# Altium footprint library SMD-RCL.PcbLib: 14 footprints
Each footprint in its own frame and in the unit in brackets; x right, y up, seen from the top. Pads: shape width x height; smd on the part's side, far side on the other; paste and mask are expansions set on the pad; w line width, h text height; cw(c..) or ccw(c..) is an arc to the next point about the centre after c.
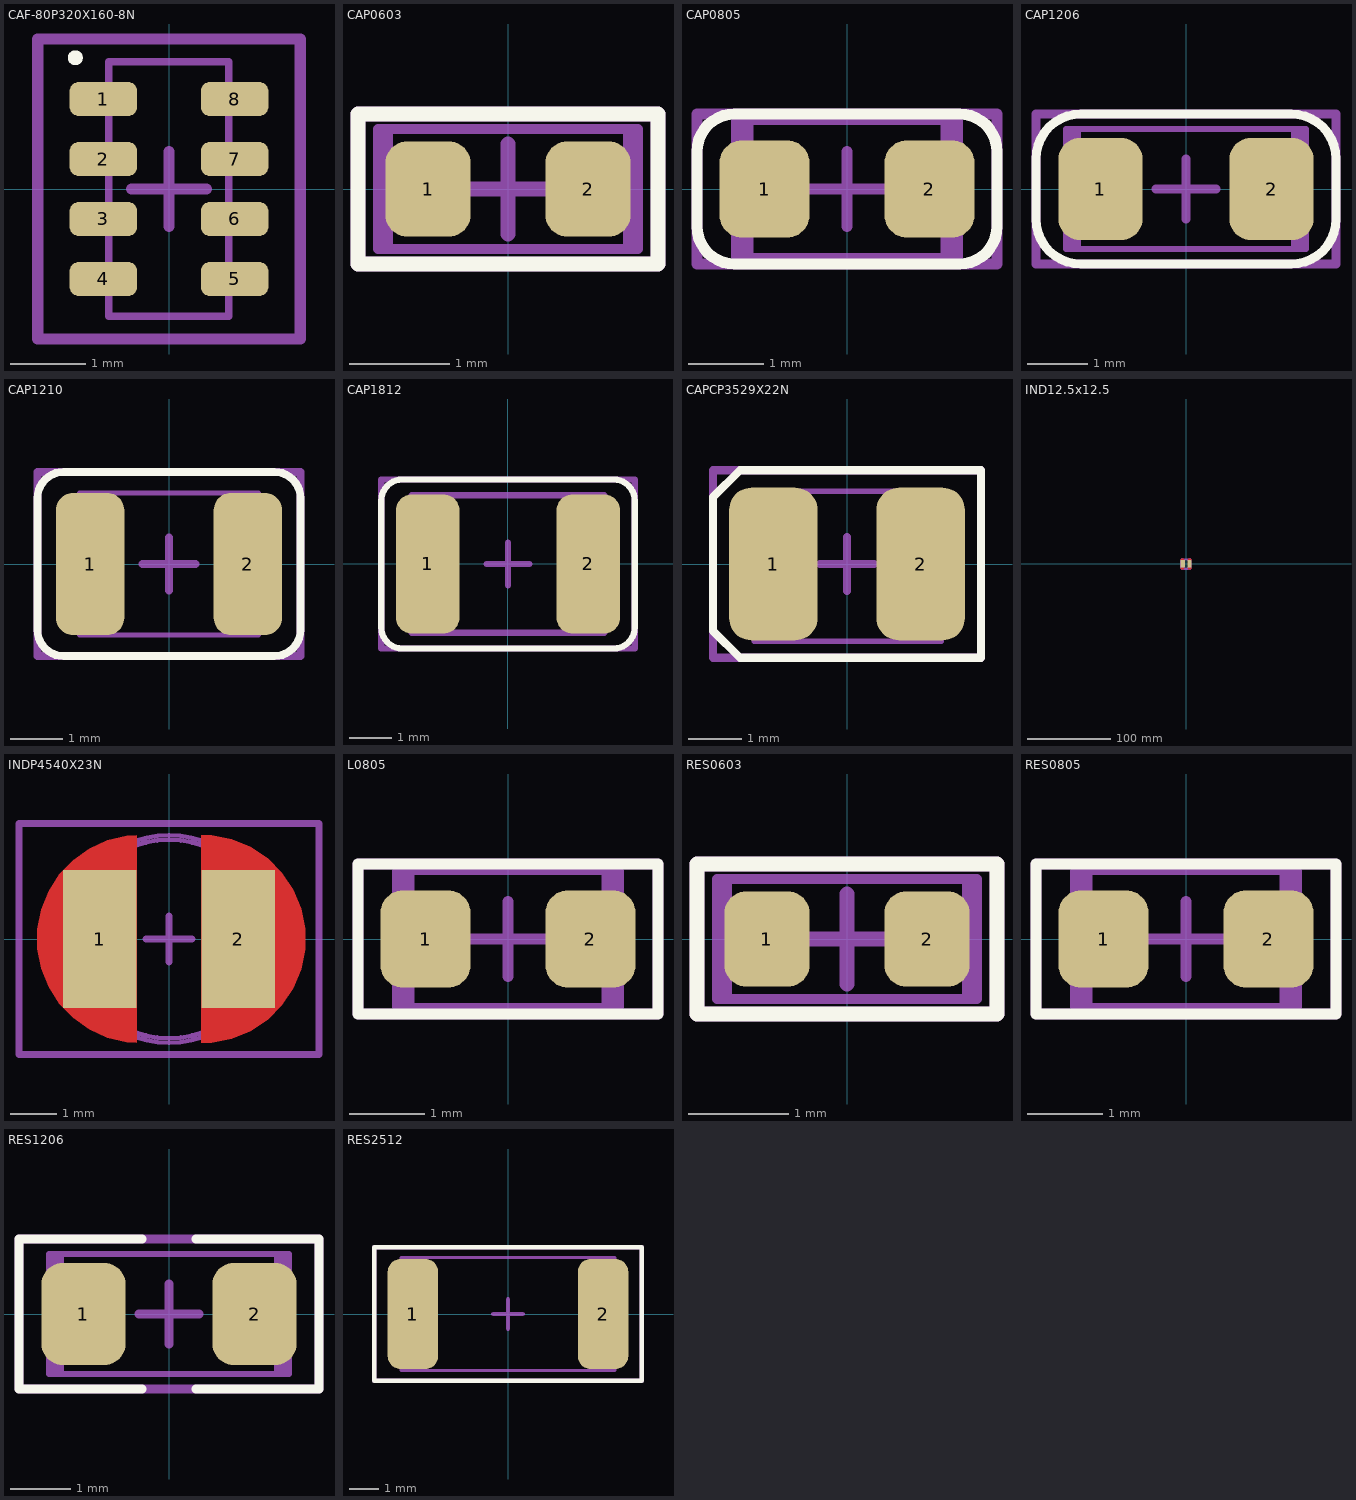
[diagram p0: the footprints below, top view; thin cyan lines are the x and y axes]

## CAF-80P320X160-8N [mm] "Chip Array, Flat, 8-Leads, Pitch 0,80mm,  Body 3,20x1,60mm,  IPC Medium Density"
height 1
pads (8):
  rrect50% 0.9x0.45 smd: 1(-0.875,1.2) 2(-0.875,0.4) 3(-0.875,-0.4) 4(-0.875,-1.2) 5(0.875,-1.2) 6(0.875,-0.4) 7(0.875,0.4) 8(0.875,1.2)
Top Overlay:
  circle w0.1: c-1.25,1.75 r0.05
Top Assembly:
  lines w0.1: -0.8,-1.7 0.8,-1.7 0.8,1.7 -0.8,1.7 -0.8,-1.7
Top Component Outline:
  lines w0.15: -0.5,0 0.5,0 ; 0,-0.5 0,0.5 ; -1.75,-2 1.75,-2 1.75,2 -1.75,2 -1.75,-2
3D body "SMD R1206-4Way-Var2-1.STEP": height 0.5, standoff 0, extent -0.8,-1.6 0.8,1.6

## CAP0603 [mm] "Chip Capacitor, 2-Leads, Body 1,60x0,83mm, IPC Medium Density"
height 0.6
pads (2):
  rrect50% 0.85x0.95 smd: 1(-0.8,0) 2(0.8,0)
Top Overlay:
  lines w0.15: -1.5,-0.75 0,-0.75 1.5,-0.75 1.5,0.75 0,0.75 -1.5,0.75 -1.5,-0.75
Top Assembly:
  lines w0.1: -1.2,-0.6 -1.2,0.6 ; 1.2,-0.6 1.2,0.6 ; -1.3,-0.6 -1.3,0.6 1.3,0.6 1.3,-0.6 -1.3,-0.6
Top Component Outline:
  lines w0.15: -0.45,0 0.45,0 ; 0,-0.45 0,0.45 ; -1.5,-0.75 -1.5,0.75 1.5,0.75 1.5,-0.75 -1.5,-0.75
3D body "CAPC1608X06N.step": height 0.6, standoff 0, extent -0.85,-0.45 0.85,0.45

## CAP0805 [mm] "Chip Capasitor, 2-Leads, Body 2,00x1,25mm, IPC Medium Density"
height 0.7
pads (2):
  rrect50% 1.2x1.3 smd: 1(-1.1,0) 2(1.1,0)
Top Overlay:
  lines w0.15: -2,-0.5 ccw(c-1.5,-0.5) -1.5,-1 1.5,-1 ccw(c1.5,-0.5) 2,-0.5 2,0.5 ccw(c1.5,0.5) 1.5,1 -1.5,1 ccw(c-1.5,0.5) -2,0.5 -2,-0.5
Top Assembly:
  rectangle: 1.3,-0.9 1.5,0.9
  rectangle: -1.5,-0.9 -1.3,0.9
  lines w0.1: -1.3,-0.9 -1.3,0.9 ; 1.3,-0.9 1.3,0.9 ; -1.5,-0.9 1.5,-0.9 1.5,0.9 -1.5,0.9 -1.5,-0.9
Top Component Outline:
  lines w0.15: -0.5,0 0.5,0 ; 0,-0.5 0,0.5 ; -2,-1 2,-1 2,1 -2,1 -2,-1
3D body "C-0805.STEP": height 0.78, standoff 0, extent -1,-0.625 1,0.625

## CAP1206 [mm] "Chip Capasitor, 2-Leads, Body 3,20x1,60mm, IPC Medium Density"
height 0.7
pads (2):
  rrect50% 1.4x1.7 smd: 1(-1.425,0) 2(1.425,0)
Top Overlay:
  lines w0.15: -2.5,-0.5 ccw(c-1.75,-0.5) -1.75,-1.25 1.75,-1.25 ccw(c1.75,-0.5) 2.5,-0.5 2.5,0.5 ccw(c1.75,0.5) 1.75,1.25 -1.75,1.25 ccw(c-1.75,0.5) -2.5,0.5 -2.5,-0.5
Top Assembly:
  rectangle: -1.95,-1 -1.75,1
  rectangle: 1.75,-1.05 1.95,1
  lines w0.1: -2,-1 -2,1 2,1 2,-1 -2,-1
Top Component Outline:
  lines w0.15: -0.5,0 0.5,0 ; 0,-0.5 0,0.5 ; -2.5,-1.25 -2.5,1.25 2.5,1.25 2.5,-1.25 -2.5,-1.25
3D body "R-1206.STEP": height 1, standoff 0, extent -1.625,-0.8 1.575,0.8

## CAP1210 [mm] "Chip Capacitor, Body 3.2x2.5mm, IPC Medium Density"
height 1.35
pads (2):
  rrect50% 1.3x2.7 smd: 1(-1.5,0) 2(1.5,0)
Top Overlay:
  lines w0.15: -2.5,-1.25 ccw(c-2,-1.25) -2,-1.75 0,-1.75 2,-1.75 ccw(c2,-1.25) 2.5,-1.25 2.5,1.25 ccw(c2,1.25) 2,1.75 0,1.75 -2,1.75 ccw(c-2,1.25) -2.5,1.25 -2.5,-1.25
Top Assembly:
  lines w0.1: -1.7,-1.35 -1.7,1.35 1.7,1.35 1.7,-1.35 -1.7,-1.35
Top Component Outline:
  lines w0.15: -0.5,0 0.5,0 ; 0,-0.5 0,0.5 ; -2.5,-1.75 -2.5,1.75 2.5,1.75 2.5,-1.75 -2.5,-1.75
3D body "CAPC3225X20N.step": height 2, standoff 0, extent -1.65,-1.275 1.65,1.275

## CAP1812 [mm] "Chip Capacitor, 2-Leads, Body 4,50x3,20mm, IPC Medium Density"
height 2
pads (2):
  rrect50% 1.5x3.3 smd: 1(-1.9,0) 2(1.9,0)
Top Overlay:
  lines w0.15: -3,-1.5 ccw(c-2.5,-1.5) -2.5,-2 -1.25,-2 1.25,-2 2.5,-2 ccw(c2.5,-1.5) 3,-1.5 3,1.5 ccw(c2.5,1.5) 2.5,2 1.25,2 -1.25,2 -2.5,2 ccw(c-2.5,1.5) -3,1.5 -3,-1.5
Top Assembly:
  lines w0.15: -2.275,-1.625 -2.275,1.625 2.275,1.625 2.275,-1.625 -2.275,-1.625
Top Component Outline:
  lines w0.15: -0.5,0 0.5,0 ; 0,-0.5 0,0.5 ; -3,-2 -3,2 3,2 3,-2 -3,-2
3D body "CAPC4532X20N.step": height 2, standoff 0, extent -2.275,-1.625 2.275,1.625

## CAPCP3529X22N [mm] "Chip Capacitor, 2-Leads, Body 3,50x2,88mm, IPC Medium Density"
height 2.2
pads (2):
  rrect50% 1.65x2.85 smd: 1(-1.375,0) 2(1.375,0)
Top Overlay:
  lines w0.15: -2.5,-1.25 -2,-1.75 2.5,-1.75 2.5,1.75 -2,1.75 -2.5,1.25 -2.5,-1.25
Top Assembly:
  rectangle: -1.5,-1.4 -1.1,1.4
  lines w0.1: -1.788,-0.694 -1.788,0.606 ; -1.752,-1.144 -1.817,-1.144 -1.817,-0.694 -1.752,-0.694 ; -1.752,-1.144 -1.735,-1.144 -1.735,-0.694 -1.752,-0.694 ; -1.752,-1.144 -1.752,-0.694 ; -1.752,0.606 -1.735,0.606 -1.735,1.056 -1.752,1.056 ; -1.752,0.606 -1.817,0.606 -1.817,1.056 -1.752,1.056 ; -1.752,0.606 -1.752,1.056 ; -1.685,-1.444 -1.685,1.356 ; -1.685,-1.444 -1.435,-1.444 1.715,-1.444 ; -1.685,-1.444 -1.735,-1.444 -1.735,1.356 -1.685,1.356 ; -1.685,1.356 -1.435,1.356 1.715,1.356 ; 1.715,-1.444 1.715,1.356 ; 1.715,-1.444 1.765,-1.444 1.765,1.356 1.715,1.356 ; 1.781,-1.144 1.846,-1.144 1.846,-0.419 ; 1.781,-1.144 1.765,-1.144 1.765,-0.419 1.781,-0.419 ; 1.781,-1.144 1.781,-0.419 ; 1.781,-0.419 1.846,-0.419 ; 1.781,0.331 1.765,0.331 1.765,1.056 1.781,1.056 ; 1.781,0.331 1.846,0.331 ; 1.781,0.331 1.781,1.056 ; 1.781,1.056 1.846,1.056 1.846,0.331 ; 1.846,-0.419 1.846,0.331
Top Component Outline:
  lines w0.15: -0.5,0 0.5,0 ; 0,-0.5 0,0.5 ; -2.5,-1.75 2.5,-1.75 2.5,1.75 -2.5,1.75 -2.5,-1.75
3D body "User Library-QT02752.SLDPRT": height 1.95, standoff 0.04, extent -1.831,-1.4 1.831,1.4

## IND12.5x12.5 [mm]
pads (2):
  rect 5x9 smd: 1(-4,0) 2(4,0)
Top Layer:
  region: 6.5,4.6 6.5,4.758 6.439,5.067 6.318,5.358 6.143,5.62 5.92,5.843 5.658,6.018 5.367,6.139 5.058,6.2 4.9,6.2 2.5,6.2 2.5,4.5 6.5,4.5
  region: 6.5,-4.6 6.5,-4.758 6.439,-5.067 6.318,-5.358 6.143,-5.62 5.92,-5.843 5.658,-6.018 5.367,-6.139 5.058,-6.2 4.9,-6.2 2.5,-6.2 2.5,-4.5 6.5,-4.5
  region: -6.5,-4.6 -6.5,-4.758 -6.439,-5.067 -6.318,-5.358 -6.143,-5.62 -5.92,-5.843 -5.658,-6.018 -5.367,-6.139 -5.058,-6.2 -4.9,-6.2 -2.5,-6.2 -2.5,-4.5 -6.5,-4.5
  region: -6.5,4.6 -6.5,4.758 -6.439,5.067 -6.318,5.358 -6.143,5.62 -5.92,5.843 -5.658,6.018 -5.367,6.139 -5.058,6.2 -4.9,6.2 -2.5,6.2 -2.5,4.5 -6.5,4.5
Top Solder:
  region: 6.6,-4.6 6.602,-4.762 6.545,-5.081 6.428,-5.383 6.256,-5.656 6.034,-5.892 5.771,-6.081 5.476,-6.216 5.162,-6.293 5,-6.3 2.4,-6.3 2.4,-4.5 6.6,-4.5
  region: 6.6,4.6 6.602,4.762 6.545,5.081 6.428,5.383 6.256,5.656 6.034,5.892 5.771,6.081 5.476,6.216 5.162,6.293 5,6.3 2.4,6.3 2.4,4.5 6.6,4.5
  region: -6.6,4.6 -6.602,4.762 -6.545,5.081 -6.428,5.382 -6.256,5.656 -6.034,5.892 -5.771,6.081 -5.476,6.216 -5.162,6.293 -5,6.3 -2.4,6.3 -2.4,4.5 -6.6,4.5
  region: -6.6,-4.6 -6.602,-4.762 -6.545,-5.081 -6.428,-5.382 -6.256,-5.656 -6.034,-5.892 -5.771,-6.081 -5.476,-6.216 -5.162,-6.293 -5,-6.3 -2.4,-6.3 -2.4,-4.5 -6.6,-4.5
Top Assembly:
  circle w0.05: c-0.064,-0.094 r5
  circle w0.05: c-2.892,2.735 r0.25
  circle w0.05: c-0.064,-0.094 r5.25
  lines w0.05: -4.644,2.951 -4.423,2.832 ; -4.423,-3.019 -4.644,-3.139 ; -4.113,-3.436 -4.645,-3.968 ccw(c-0.064,-0.094) -3.938,-4.675 -3.406,-4.143 ; -4.113,3.248 -4.645,3.781 cw(c-0.064,-0.094) -3.938,4.488 -3.406,3.955 ; -3.109,-4.674 -2.989,-4.453 ; -3.109,4.487 -2.989,4.266 ; -2.229,-5.15 -2.11,-4.929 ; -2.229,4.962 -2.11,4.741 ; 1.982,-4.929 2.101,-5.15 ; 1.982,4.741 2.101,4.962 ; 2.862,-4.453 2.981,-4.674 ; 2.862,4.266 2.981,4.487 ; 3.278,-4.143 3.811,-4.675 ccw(c-0.064,-0.094) 4.518,-3.968 3.985,-3.436 ; 3.278,3.955 3.811,4.488 cw(c-0.064,-0.094) 4.518,3.781 3.985,3.248 ; 4.296,-3.019 4.516,-3.139 ; 4.296,2.832 4.516,2.951 ; -6.314,-4.344 ccw(c-4.314,-4.344) -4.314,-6.344 ; -6.314,-4.344 -6.314,4.156 ; -6.314,-4.344 -6.214,-4.344 ; -6.314,4.156 cw(c-4.314,4.156) -4.314,6.156 ; -6.314,4.156 -6.214,4.156 ; -6.214,-4.344 ccw(c-4.314,-4.344) -4.314,-6.244 ; -6.214,-4.344 -6.214,4.156 ; -6.214,4.156 cw(c-4.314,4.156) -4.314,6.056 ; -4.873,-3.06 cw(c11.018,-87.555) -4.714,-3.03 ; -4.873,-3.06 cw(c-7.135,-5.29) -4.763,-3.177 ; -4.873,-3.06 ccw(c-4.314,-4.343) -3.03,-4.902 ; -4.873,-3.06 cw(c-0.064,-0.094) -4.873,2.872 ; -4.873,2.872 cw(c-4.314,4.156) -3.03,4.715 ; -4.873,2.872 ccw(c-7.12,5.089) -4.763,2.99 ; -4.873,2.872 ccw(c11.018,87.367) -4.714,2.843 ; -4.763,-3.177 ccw(c-4.799,-3.084) -4.714,-3.03 ; -4.763,-3.177 ccw(c-4.314,-4.343) -3.147,-4.793 ; -4.763,-3.177 -4.644,-3.138 ; -4.763,2.99 cw(c-4.314,4.156) -3.147,4.605 ; -4.763,2.99 cw(c-4.799,2.896) -4.714,2.843 ; -4.763,2.99 -4.644,2.951 -4.714,2.843 ; -4.714,-3.03 cw(c-0.064,-0.094) -4.714,2.843 ; -4.714,-3.03 -4.644,-3.138 ; -4.314,-6.344 4.186,-6.344 ; -4.314,-6.344 -4.314,-6.244 ; -4.314,-6.244 4.186,-6.244 ; -4.314,6.056 -4.314,6.156 ; -4.314,6.056 4.186,6.056 ; -4.314,6.156 4.186,6.156 ; -3.147,-4.793 cw(c-3.054,-4.829) -3,-4.744 ; -3.147,-4.793 cw(c-5.26,-7.165) -3.03,-4.902 ; -3.147,-4.793 -3.108,-4.674 -3,-4.744 ; -3.147,4.605 ccw(c-3.054,4.641) -3,4.557 ; -3.147,4.605 ccw(c-5.246,6.963) -3.03,4.715 ; -3.147,4.605 -3.108,4.487 -3,4.557 ; -3.03,-4.902 ccw(c-91.347,11.703) -3,-4.744 ; -3.03,-4.902 ccw(c-0.064,-0.094) 2.902,-4.902 ; -3.03,4.715 cw(c-87.525,-11.175) -3,4.557 ; -3.03,4.715 cw(c-0.064,-0.094) 2.902,4.715 ; -3,-4.744 ccw(c-0.064,-0.094) 2.873,-4.744 ; -3,4.557 cw(c-0.064,-0.094) 2.873,4.557 ; 2.873,-4.744 cw(c2.926,-4.829) 3.019,-4.793 ; 2.873,-4.744 ccw(c91.22,11.703) 2.902,-4.902 ; 2.873,-4.744 2.98,-4.674 3.019,-4.793 ; 2.873,4.557 ccw(c2.926,4.641) 3.019,4.605 ; 2.873,4.557 cw(c87.397,-11.175) 2.902,4.715 ; 2.873,4.557 2.98,4.487 ; 2.902,-4.902 ccw(c4.186,-4.343) 4.745,-3.06 ; 2.902,-4.902 cw(c5.133,-7.165) 3.019,-4.793 ; 2.902,4.715 cw(c4.186,4.156) 4.745,2.872 ; 2.902,4.715 ccw(c5.119,6.963) 3.019,4.605 ; 2.98,4.487 3.019,4.605 ; 3.019,-4.793 ccw(c4.186,-4.343) 4.635,-3.177 ; 3.019,4.605 cw(c4.186,4.156) 4.635,2.99 ; 4.186,-6.344 ccw(c4.186,-4.344) 6.186,-4.344 ; 4.186,-6.344 4.186,-6.244 ; 4.186,-6.244 ccw(c4.186,-4.344) 6.086,-4.344 ; 4.186,6.056 cw(c4.186,4.156) 6.086,4.156 ; 4.186,6.056 4.186,6.156 ; 4.186,6.156 cw(c4.186,4.156) 6.186,4.156 ; 4.587,-3.03 ccw(c4.671,-3.084) 4.635,-3.177 ; 4.587,-3.03 ccw(c-0.064,-0.094) 4.587,2.843 ; 4.587,-3.03 cw(c-11.86,-91.377) 4.745,-3.06 ; 4.587,-3.03 4.517,-3.138 4.635,-3.177 ; 4.587,2.843 cw(c4.671,2.896) 4.635,2.99 ; 4.587,2.843 ccw(c-11.86,91.19) 4.745,2.872 ; 4.587,2.843 4.517,2.951 4.635,2.99 ; 4.635,-3.177 cw(c7.007,-5.29) 4.745,-3.06 ; 4.635,2.99 ccw(c6.993,5.089) 4.745,2.872 ; 4.745,-3.06 ccw(c-0.064,-0.094) 4.745,2.872 ; 6.086,-4.344 6.086,4.156 ; 6.086,-4.344 6.186,-4.344 ; 6.086,4.156 6.186,4.156 ; 6.186,-4.344 6.186,4.156
3D body "User Library-DRQ127_12_5x12_5.step": height 8, standoff 0, extent -6.3,-6.325 6.2,6.175

## INDP4540X23N [mm] "Precision Wire Wound Inductor, 2-Leads, Body 4,50x4,00mm, IPC Medium Density"
height 2.29
pads (2):
  rect 1.6x3 smd: 1(-1.5,0) 2(1.5,0)
Top Layer:
  region: 0.7,0 2.95,0 2.95,0.222 2.864,0.656 2.694,1.066 2.448,1.434 2.134,1.748 1.766,1.994 1.356,2.164 0.922,2.25 0.7,2.25
  region: 0.7,0 2.95,0 2.95,-0.222 2.864,-0.656 2.694,-1.066 2.448,-1.434 2.134,-1.748 1.766,-1.994 1.356,-2.164 0.922,-2.25 0.7,-2.25
  region: -0.7,0 -2.85,0 -2.85,-0.215 -2.768,-0.638 -2.608,-1.038 -2.375,-1.4 -2.077,-1.711 -1.726,-1.96 -1.334,-2.138 -0.915,-2.238 -0.7,-2.248
  region: -0.7,0 -2.85,0 -2.85,0.215 -2.768,0.638 -2.608,1.038 -2.375,1.4 -2.077,1.711 -1.726,1.96 -1.334,2.138 -0.915,2.238 -0.7,2.248
Top Assembly:
  lines w0.1: -1.848,-0.329 -1.864,-0.22 -1.874,-0.11 -1.877,0 -1.874,0.11 -1.864,0.22 -1.848,0.329 ; -1.833,0.322 -1.847,0.216 -1.855,0.109 -1.857,0.001 -1.852,-0.106 -1.841,-0.212 -1.824,-0.317 ; -1.643,-0.065 -1.643,-0.045 -1.644,-0.025 -1.643,-0.005 -1.643,0.015 -1.642,0.035 -1.642,0.056 ; 1.831,-0.321 1.85,-0.197 1.86,-0.092 1.863,-0.001 1.862,0.082 1.858,0.163 1.85,0.244 1.838,0.324 ; 1.848,-0.329 1.864,-0.22 1.874,-0.11 1.877,0 1.874,0.11 1.864,0.22 1.848,0.329 ; -2.221,-0.36 ccw(c0,0) 0,-2.25 ccw(c0,0) 2.221,-0.36 ; -2.221,-0.36 cw(c0,0) -2.25,0 cw(c0,0) -2.221,0.36 ; -2.221,-0.36 -2.206,-0.36 -2.192,-0.36 -2.177,-0.36 -2.163,-0.361 -2.148,-0.361 -2.134,-0.361 -2.119,-0.361 ; -2.221,0.36 cw(c0,0) 0,2.25 cw(c0,0) 2.221,0.36 ; -2.221,0.36 -2.206,0.36 -2.192,0.36 -2.177,0.36 -2.163,0.361 -2.148,0.361 -2.134,0.361 -2.119,0.361 ; -2.119,-0.361 ccw(c0,0) 0,-2.15 ccw(c0,0) 2.119,-0.361 ; -2.119,-0.361 -2.005,-0.363 ccw(c-2,0) -1.637,0 ccw(c-2,0) -2.005,0.363 -2.119,0.361 ; -2.119,0.361 cw(c0,0) 0,2.15 cw(c0,0) 2.119,0.361 ; 2.119,-0.361 2.134,-0.361 2.148,-0.361 2.163,-0.361 2.177,-0.36 2.192,-0.36 2.206,-0.36 2.221,-0.36 ; 2.119,-0.361 2.005,-0.363 cw(c2,0) 1.637,0 cw(c2,0) 2.005,0.363 2.119,0.361 ; 2.119,0.361 2.134,0.361 2.148,0.361 2.163,0.361 2.177,0.36 2.192,0.36 2.206,0.36 2.221,0.36 ; 2.221,-0.36 ccw(c0,0) 2.25,0 ccw(c0,0) 2.221,0.36
Top Component Outline:
  lines w0.15: -0.5,0 0.5,0 ; 0,-0.5 0,0.5 ; -3.25,-2.5 3.25,-2.5 3.25,2.5 -3.25,2.5 -3.25,-2.5
3D body "69505.stp": height 3.2, standoff 0, extent -2.25,-2.25 2.25,2.25

## L0805 [mm]
pads (2):
  rrect50% 1.2x1.3 smd: 1(-1.1,0) 2(1.1,0)
Top Overlay:
  lines w0.15: -2,-1 2,-1 2,1 -2,1 -2,-1
Top Assembly:
  rectangle: 1.3,-0.9 1.5,0.9
  rectangle: -1.5,-0.9 -1.3,0.9
  lines w0.1: -1.3,-0.9 -1.3,0.9 ; 1.3,-0.9 1.3,0.9 ; -1.5,-0.9 1.5,-0.9 1.5,0.9 -1.5,0.9 -1.5,-0.9
Top Component Outline:
  lines w0.15: -0.5,0 0.5,0 ; 0,-0.5 0,0.5 ; -2,-1 2,-1 2,1 -2,1 -2,-1
3D body "L 0805HT.STEP": height 0.88, standoff -0.01, extent -1.05,-0.787 1.05,0.787

## RES0603 [mm] "Chip Capacitor, 2-Leads, Body 1,60x0,83mm, IPC Medium Density"
height 0.6
pads (2):
  rrect50% 0.85x0.95 smd: 1(-0.8,0) 2(0.8,0)
Top Overlay:
  lines w0.15: -1.5,-0.75 0,-0.75 1.5,-0.75 1.5,0.75 0,0.75 -1.5,0.75 -1.5,-0.75
Top Assembly:
  lines w0.1: -1.2,-0.6 -1.2,0.6 ; 1.2,-0.6 1.2,0.6 ; -1.3,-0.6 1.3,-0.6 1.3,0.6 -1.3,0.6 -1.3,-0.6
Top Component Outline:
  lines w0.15: -0.45,0 0.45,0 ; 0,-0.45 0,0.45 ; -1.5,-0.75 1.5,-0.75 1.5,0.75 -1.5,0.75 -1.5,-0.75
3D body "SMD R-0603.STEP": height 0.45, standoff -0.01, extent -0.8,-0.4 0.8,0.4

## RES0805 [mm] "Chip Resistor, 2-Leads, Body 2,00x1,25mm, IPC Medium Density"
height 0.7
pads (2):
  rrect50% 1.2x1.3 smd: 1(-1.1,0) 2(1.1,0)
Top Overlay:
  lines w0.15: -2,-1 -2,1 2,1 2,-1 -2,-1
Top Assembly:
  rectangle: 1.3,-0.9 1.5,0.9
  rectangle: -1.5,-0.9 -1.3,0.9
  lines w0.1: -1.3,-0.9 -1.3,0.9 ; 1.3,-0.9 1.3,0.9 ; -1.5,-0.9 1.5,-0.9 1.5,0.9 -1.5,0.9 -1.5,-0.9
Top Component Outline:
  lines w0.15: -0.5,0 0.5,0 ; 0,-0.5 0,0.5 ; -2,-1 -2,1 2,1 2,-1 -2,-1
3D body "R-0805.STEP": height 0.6, standoff 0, extent -1,-0.625 1,0.625

## RES1206 [mm] "Chip Resistor, 2-Leads, Body 3,20x1,60mm, IPC Medium Density"
height 0.7
pads (2):
  rrect50% 1.4x1.7 smd: 1(-1.425,0) 2(1.425,0)
Top Overlay:
  lines w0.15: -0.45,-1.25 -2.5,-1.25 -2.5,1.25 -0.45,1.25 ; 0.45,-1.25 2.5,-1.25 2.5,1.25 0.45,1.25
Top Assembly:
  rectangle: 1.75,-1 1.95,1
  rectangle: -1.95,-1 -1.75,1
  lines w0.1: -2,-1 -2,1 2,1 2,-1 -2,-1
Top Component Outline:
  lines w0.15: -0.5,0 0.5,0 ; 0,-0.5 0,0.5 ; -2.5,-1.25 -2.5,1.25 2.5,1.25 2.5,-1.25 -2.5,-1.25
3D body "R-1206 (2).STEP": height 0.6, standoff 0, extent -1.6,-0.8 1.6,0.8

## RES2512 [mm]
height 0.7
pads (2):
  rrect50% 1.7x3.7 smd: 1(-3.2,0) 2(3.2,0)
Top Overlay:
  lines w0.15: -4.5,-2.25 -4.5,2.25 4.5,2.25 4.5,-2.25 -4.5,-2.25
Top Assembly:
  rectangle: 2.8,-1.9 3.6,1.9
  rectangle: -3.6,-1.9 -2.8,1.9
  lines w0.1: -3.3,-1.9 -3.3,1.9 ; 3.3,-1.9 3.3,1.9 ; -3.6,-1.9 -3.6,1.9 3.6,1.9 3.6,-1.9 -3.6,-1.9
Top Component Outline:
  lines w0.15: -0.5,0 0.5,0 ; 0,-0.5 0,0.5 ; -4.5,-2.25 -4.5,2.25 4.5,2.25 4.5,-2.25 -4.5,-2.25
3D body "SMD R-2512.STEP": height 0.62, standoff 0, extent -3.16,-1.6 3.16,1.6